# EAGLE library part IPT034N15NM6ATMA1 (library IPT034N15NM6ATMA1)
MOSFETs OptiMOS 6 power MOSFET 150 V normal level in TOLL package Source: Datasheet <https://www.infineon.com/assets/row/public/documents/24/49/infineon-ipt034n15nm6-datasheet-en.pdf>
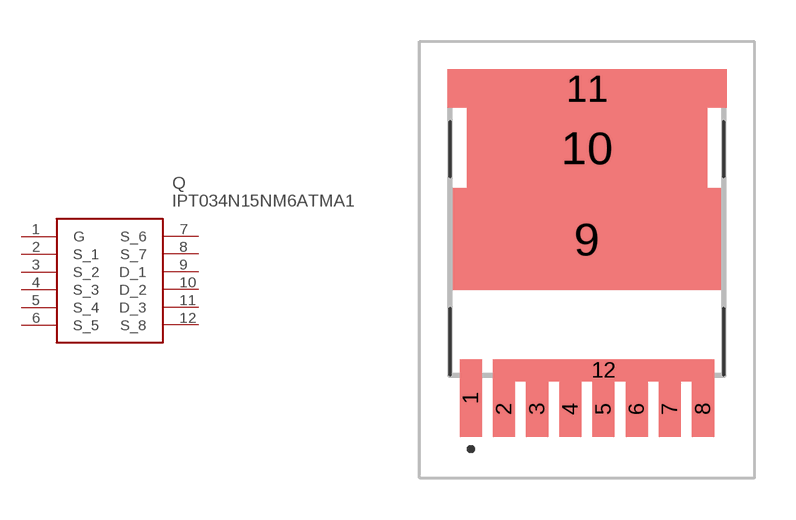
[diagram p0: symbol with the pads of IAUT150N10S5N035ATMA1; footprint IAUT150N10S5N035ATMA1]

Designator prefix Q

## IPT034N15NM6ATMA1 (Description: MOSFETs OptiMOS 6 power MOSFET 150 V normal level in TOLL package; Height: mm; Manufacturer_Name: Infineon; Manufacturer_Part_Number: IPT034N15NM6ATMA1; Mouser_Part_Number: 726-IPT034N15NM6ATMA; Mouser_Price-Stock: https://www.mouser.co.uk/ProductDetail/Infineon-Technologies/IPT034N15NM6ATMA1?qs=7%2F6SraaimPSH5LUgDMi%2FsQ%3D%3D)  [IAUT150N10S5N035ATMA1]
1  G
2  S_1
3  S_2
4  S_3
5  S_4
6  S_5
7  S_6
8  S_7
9  D_1
10  D_2
11  D_3
12  S_8

## Footprint IAUT150N10S5N035ATMA1 (pad centres in mm)
PG-HSOF-8-1
smd 0.8 x 2.8: 1 -4.2,-6.012
smd 0.8 x 2: 2 -3,-6.412; 3 -1.8,-6.412; 4 -0.6,-6.412; 5 0.6,-6.412; 6 1.8,-6.412; 7 3,-6.412; 8 4.2,-6.412
smd 9.7 x 3.7: 9 0,-0.262
smd 8.7 x 2.9: 10 0,3.038
smd 10.1 x 1.4: 11 0,5.188
smd 8 x 0.8: 12 0.6,-5.012